# EAGLE library part YH-55-10 (library matt special)
RJ11 6 connects Source: YH-55-10.pdf
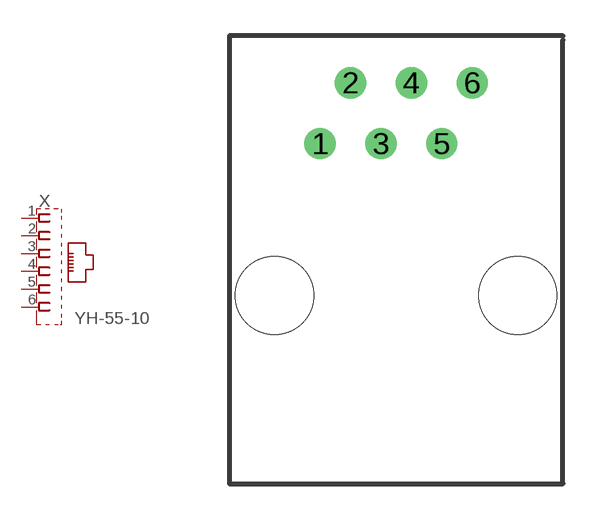
[diagram p14: symbol with the pads of YH-55-10; footprint YH-55-10]

Designator prefix X

## YH-55-10 (OC_FARNELL: unknown; OC_NEWARK: unknown)  [YH-55-10]
1  1  pas
2  2  pas
3  3  pas
4  4  pas
5  5  pas
6  6  pas

## Footprint YH-55-10 (pad centres in mm)
RJ11 6 connects Source: YH-55-10.pdf
drill 0.8 pad 1.3 round: 1 -2.54,2.54; 2 -1.27,5.08; 3 0,2.54; 4 1.27,5.08; 5 2.54,2.54; 6 3.81,5.08
hole 3.25 at -4.445,-3.81
hole 3.25 at 5.715,-3.81